# Altium footprint library PCB_connector.PcbLib: 1 footprints
Each footprint in its own frame and in the unit in brackets; x right, y up, seen from the top. Pads: shape width x height; smd on the part's side, far side on the other; paste and mask are expansions set on the pad; w line width, h text height; cw(c..) or ccw(c..) is an arc to the next point about the centre after c.
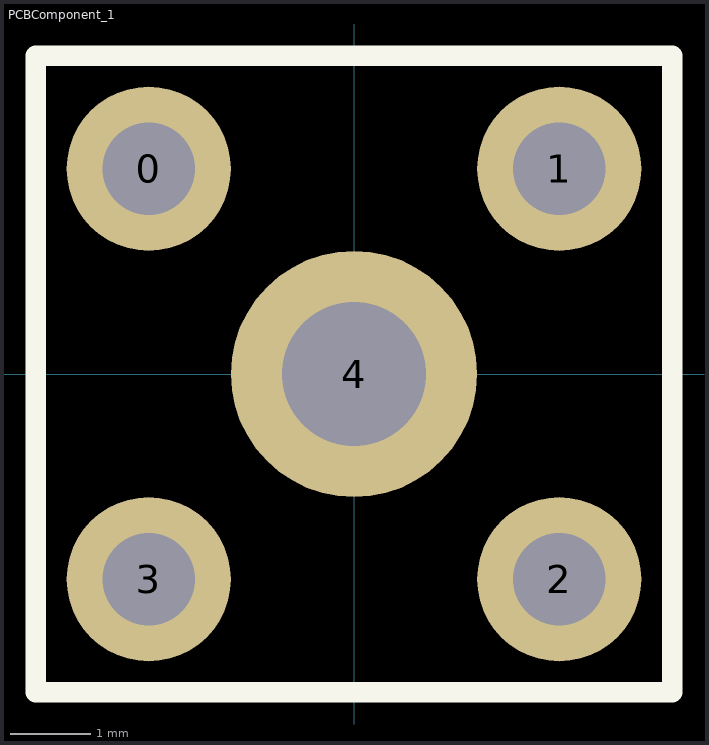
[diagram p0: the footprint, top view; thin cyan lines are the x and y axes]

## PCBComponent_1 [mil]
pads (5):
  round 80 hole 45: 0(-100,100) 1(100,100) 2(100,-100) 3(-100,-100)
  round 120 hole 70: 4(0,0)
Top Overlay:
  lines w10: -155,-155 -155,155 155,155 155,-155 -155,-155